# Altium footprint library SIM7600.PcbLib: 4 footprints
Each footprint in its own frame and in the unit in brackets; x right, y up, seen from the top. Pads: shape width x height; smd on the part's side, far side on the other; paste and mask are expansions set on the pad; w line width, h text height; cw(c..) or ccw(c..) is an arc to the next point about the centre after c.
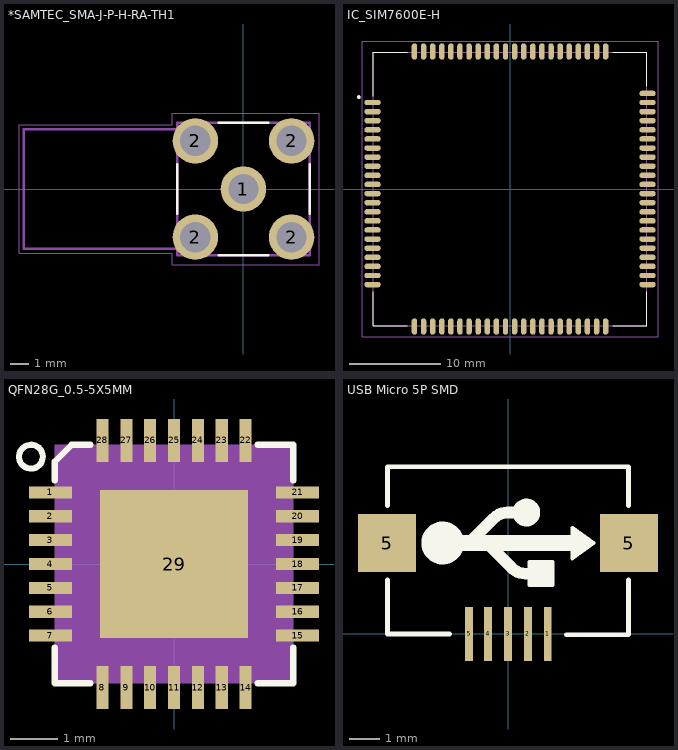
[diagram p0: the footprints below, top view; thin cyan lines are the x and y axes]

## *SAMTEC_SMA-J-P-H-RA-TH1 [mm]
pads (5):
  round 2.4 hole 1.6: 1(0,0) 2(-2.54,-2.54) 2(-2.54,2.54) 2(2.54,-2.54) 2(2.54,2.54)
Top Overlay:
  lines w0.127: -3.5,-1.3 -3.5,1.3 ; -1.3,-3.5 1.3,-3.5 ; -1.3,3.5 1.3,3.5 ; 3.5,-1.3 3.5,1.3
Mechanical 4:
  lines w0.127: -11.6,-3.15 -11.6,3.15 ; -11.6,-3.15 -3.5,-3.15 ; -11.6,-3.15 -11.6,3.15 ; -11.6,-3.15 -3.5,-3.15 ; -11.6,3.15 -3.5,3.15 ; -11.6,3.15 -3.5,3.15 ; -3.5,-3.5 3.5,-3.5 ; -3.5,-3.5 -3.5,-3.15 ; -3.5,-3.5 3.5,-3.5 ; -3.5,-3.5 -3.5,-3.15 ; -3.5,-3.15 -3.5,3.15 ; -3.5,-3.15 -3.5,3.15 ; -3.5,3.15 -3.5,3.5 ; -3.5,3.15 -3.5,3.5 ; -3.5,3.5 3.5,3.5 ; -3.5,3.5 3.5,3.5 ; 3.5,-3.5 3.5,3.5 ; 3.5,-3.5 3.5,3.5
Mechanical 16:
  lines w0.05: -11.85,-3.4 -11.85,3.4 -3.75,3.4 -3.75,3.99 3.99,3.99 3.99,-3.99 -3.75,-3.99 -3.75,-3.4 -11.85,-3.4
3D body "SMA-J-P-H-RA-TH1.stp": height 10, standoff -3.8, extent -11.6,-3.5 3.5,3.5

## IC_SIM7600E-H [mm]
pads (87):
  oval 1.8x0.6 smd: 1(-15.1,9.5) 2(-15.1,8.5) 3(-15.1,7.5) 4(-15.1,6.5) 5(-15.1,5.5) 6(-15.1,4.5) 7(-15.1,3.5) 8(-15.1,2.5) 9(-15.1,1.5) 10(-15.1,0.5) 11(-15.1,-0.5) 12(-15.1,-1.5) 13(-15.1,-2.5) 14(-15.1,-3.5) 15(-15.1,-4.5) 16(-15.1,-5.5) 17(-15.1,-6.5) 18(-15.1,-7.5) 19(-15.1,-8.5) 20(-15.1,-9.5) 41(15.1,-9.5) 42(15.1,-8.5) 43(15.1,-7.5) 44(15.1,-6.5) 45(15.1,-5.5) 46(15.1,-4.5) 47(15.1,-3.5) 48(15.1,-2.5) 49(15.1,-1.5) 50(15.1,-0.5) 51(15.1,0.5) 52(15.1,1.5) 53(15.1,2.5) 54(15.1,3.5) 55(15.1,4.5) 56(15.1,5.5) 57(15.1,6.5) 58(15.1,7.5) 59(15.1,8.5) 60(15.1,9.5) 81(-15.1,-10.5) 82(15.1,-10.5) 85(15.1,10.5)
  oval 0.6x1.8 smd: 21(-9.5,-15.1) 22(-8.5,-15.1) 23(-7.5,-15.1) 24(-6.5,-15.1) 25(-5.5,-15.1) 26(-4.5,-15.1) 27(-3.5,-15.1) 28(-2.5,-15.1) 29(-1.5,-15.1) 30(-0.5,-15.1) 31(0.5,-15.1) 32(1.5,-15.1) 33(2.5,-15.1) 34(3.5,-15.1) 35(4.5,-15.1) 36(5.5,-15.1) 37(6.5,-15.1) 38(7.5,-15.1) 39(8.5,-15.1) 40(9.5,-15.1) 61(9.5,15.1) 62(8.5,15.1) 63(7.5,15.1) 64(6.5,15.1) 65(5.5,15.1) 66(4.5,15.1) 67(3.5,15.1) 68(2.5,15.1) 69(1.5,15.1) 70(0.5,15.1) 71(-0.5,15.1) 72(-1.5,15.1) 73(-2.5,15.1) 74(-3.5,15.1) 75(-4.5,15.1) 76(-5.5,15.1) 77(-6.5,15.1) 78(-7.5,15.1) 79(-8.5,15.1) 80(-9.5,15.1) 83(10.5,-15.1) 84(-10.5,-15.1) 86(-10.5,15.1) 87(10.5,15.1)
Top Overlay:
  circle w0.2: c-16.6,10.1 r0.1
  lines w0.127: -15,-11.3 -15,-15 -11.3,-15 ; -15,10.2 -15,15 -11.3,15 ; 11.3,-15 15,-15 15,-11.3 ; 11.3,15 15,15 15,11.3
Mechanical 13:
  circle w0.2: c-16.6,10.1 r0.1
  lines w0.127: -15,-15 15,-15 15,15 -15,15 -15,-15
Mechanical 15:
  lines w0.05: -16.25,-16.25 16.25,-16.25 16.25,16.25 -16.25,16.25 -16.25,-16.25
3D body "User Library-User Library-SIM7600C.STEP": height 3.09, standoff -0.09, extent -14.986,-14.986 15.014,15.014

## QFN28G_0.5-5X5MM [mm]
pads (29):
  rect 0.9x0.254 smd: 1(-2.59,1.5) 2(-2.59,1) 3(-2.59,0.5) 4(-2.59,0) 5(-2.59,-0.5) 6(-2.59,-1) 7(-2.59,-1.5) 15(2.59,-1.5) 16(2.59,-1) 17(2.59,-0.5) 18(2.59,0) 19(2.59,0.5) 20(2.59,1) 21(2.59,1.5)
  rect 0.254x0.9 smd: 8(-1.5,-2.59) 9(-1,-2.59) 10(-0.5,-2.59) 11(0,-2.59) 12(0.5,-2.59) 13(1,-2.59) 14(1.5,-2.59) 22(1.5,2.59) 23(1,2.59) 24(0.5,2.59) 25(0,2.59) 26(-0.5,2.59) 27(-1,2.59) 28(-1.5,2.59)
  rect 3.1x3.1 smd paste-3: 29(0,0)
Top Overlay:
  circle w0.127: c-3,2.25 r0.25
  lines w0.127: -2.5,-1.75 -2.5,-2.5 -1.75,-2.5 ; -2.5,1.75 -2.5,2.146 -2.146,2.5 -1.75,2.5 ; 1.75,-2.5 2.5,-2.5 2.5,-1.75 ; 1.75,2.5 2.5,2.5 2.5,1.75
Top Paste:
  region: -0.25,0.25 -1.502,0.25 -1.502,1.5 -0.25,1.5
  region: 1.5,0.25 0.25,0.25 0.25,1.5 1.5,1.5
  region: -0.25,-1.503 -1.503,-1.503 -1.503,-0.25 -0.25,-0.25
  region: 1.5,-1.503 0.25,-1.503 0.25,-0.25 1.5,-0.25
Mechanical 15:
  region: 2.5,-2.505 -2.505,-2.505 -2.505,2.5 2.5,2.5

## USB Micro 5P SMD [mil]
height 153.54
pads (7):
  rect 10x70 smd: 1(51.18,0) 2(25.59,0) 3(0,0) 4(-25.59,0) 5(-50,0)
  rect 74.8x74.8 smd: 5(-155.51,116.84) 5(155.51,116.84)
Top Overlay:
  circle w20: c23.56,156.21 r7.87
  circle w35: c-84.07,117 r10
  region: 57.03,62.87 27.5,62.87 27.5,92.39 57.03,92.39
  region: 110.18,117 82.62,97.31 82.62,136.69
  lines w5: 27.5,62.87 57.03,62.87 57.03,92.39 27.5,92.39 27.5,62.87 ; 82.62,97.31 82.62,136.69 110.18,117 82.62,97.31
  lines w6: -155,69.8 -155,0 -75,0 ; -155,164.84 -155,215 155,215 155,164.84 ; 75,-1 155,-1 155,69.8
  lines w15: -52.85,114.46 -18.48,148.83 cw(c-0.65,131) -0.65,156.21 22.5,156.21 ; -24.7,114.54 4.83,85.01 ccw(c22.66,102.84) 22.66,77.63 42.5,77.63
  lines w20: -82.5,117 92.5,117
3D body "Micro USB.STP": height 106.7, standoff -9.04, extent -156.58,4.51 157.59,218.29